# EAGLE library part NOIX3SN012KB (library ICs)
CMOS Image Sensor 4096H x 3072V 3.2µm x 3.2µm 163-CLGA (20.88x19.9)
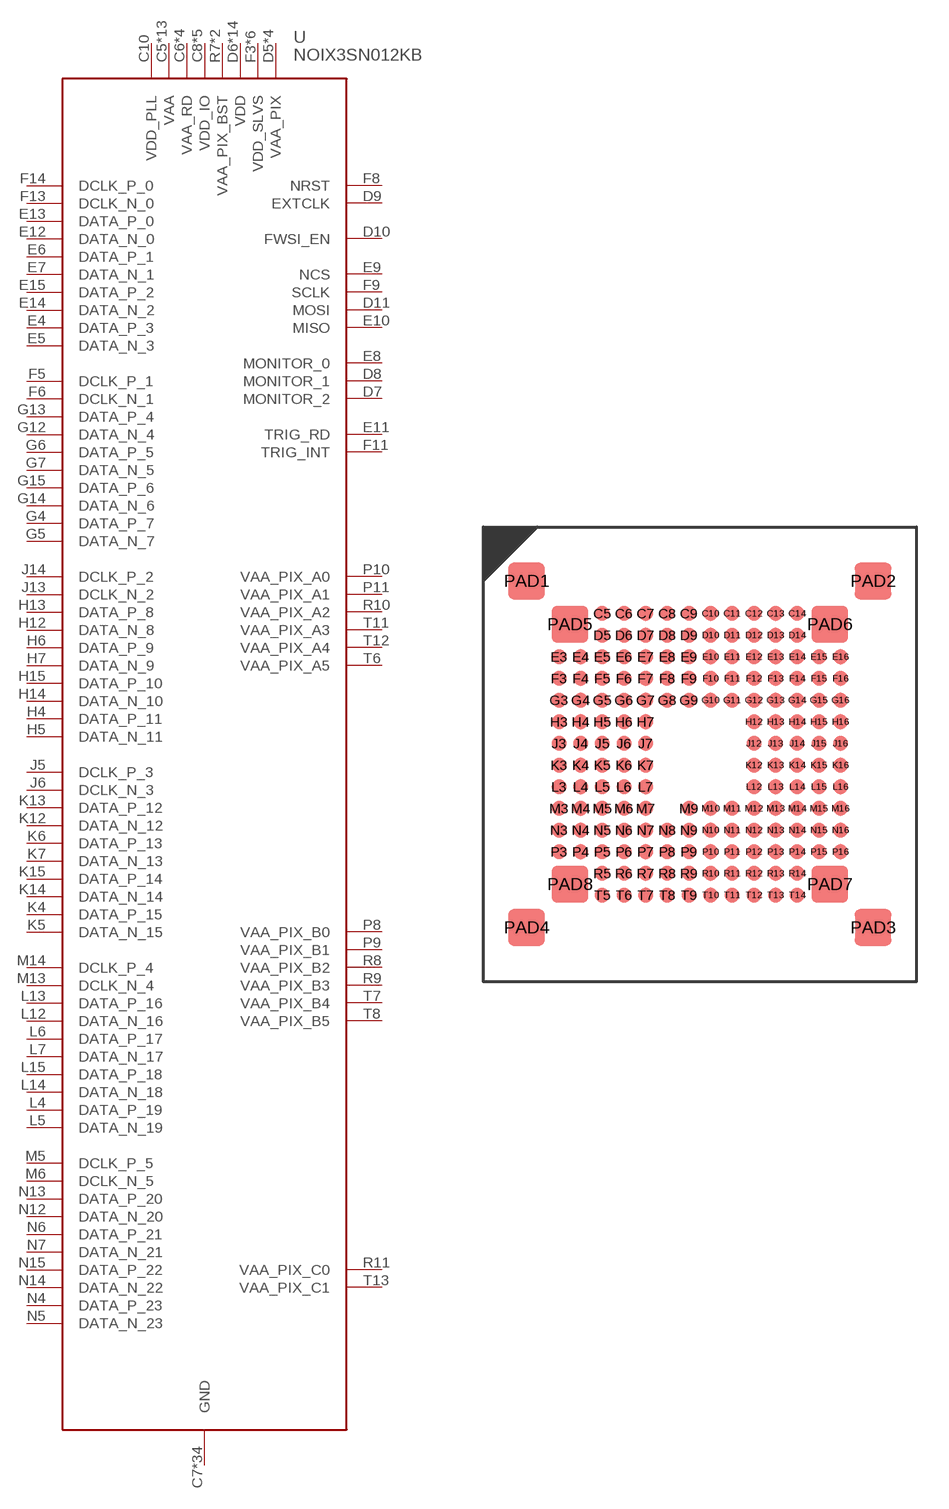
[diagram p324: symbol with the pads of CLGA163; footprint CLGA163]

Designator prefix U

## NOIX3SN012KB-LTI (DIGIKEY: 488-NOIX3SN012KB-LTI-ND; HEIGHT: 2.54; PRICE_PER: 344; VALUE: NOIX3SN012KB)  [CLGA163]
C5  VAA
C6  VAA_RD
C7  GND
C8  VDD_IO
C9  VDD_IO
C10  VDD_PLL
C11  VDD_IO
C12  GND
C13  VAA_RD
C14  VAA
D5  VAA_PIX
D6  VDD
D7  MONITOR_2
D8  MONITOR_1
D9  EXTCLK
D10  FWSI_EN
D11  MOSI
D12  GND
D13  VDD
D14  VAA_PIX
E3  VDD
E4  DATA_P_3
E5  DATA_N_3
E6  DATA_P_1
E7  DATA_N_1
E8  MONITOR_0
E9  NCS
E10  MISO
E11  TRIG_RD
E12  DATA_N_0
E13  DATA_P_0
E14  DATA_N_2
E15  DATA_P_2
E16  VDD
F3  VDD_SLVS
F4  GND
F5  DCLK_P_1
F6  DCLK_N_1
F7  VDD
F8  NRST
F9  SCLK
F10  GND
F11  TRIG_INT
F12  VDD
F13  DCLK_N_0
F14  DCLK_P_0
F15  GND
F16  VDD_SLVS
G3  GND
G4  DATA_P_7
G5  DATA_N_7
G6  DATA_P_5
G7  DATA_N_5
G8  GND
G9  GND
G10  GND
G11  GND
G12  DATA_N_4
G13  DATA_P_4
G14  DATA_N_6
G15  DATA_P_6
G16  GND
H3  VDD
H4  DATA_P_11
H5  DATA_N_11
H6  DATA_P_9
H7  DATA_N_9
H12  DATA_N_8
H13  DATA_P_8
H14  DATA_N_10
H15  DATA_P_10
H16  VDD
J3  VDD_SLVS
J4  GND
J5  DCLK_P_3
J6  DCLK_N_3
J7  VDD
J12  VDD
J13  DCLK_N_2
J14  DCLK_P_2
J15  GND
J16  VDD_SLVS
K3  GND
K4  DATA_P_15
K5  DATA_N_15
K6  DATA_P_13
K7  DATA_N_13
K12  DATA_N_12
K13  DATA_P_12
K14  DATA_N_14
K15  DATA_P_14
K16  GND
L3  VDD
L4  DATA_P_19
L5  DATA_N_19
L6  DATA_P_17
L7  DATA_N_17
L12  DATA_N_16
L13  DATA_P_16
L14  DATA_N_18
L15  DATA_P_18
L16  VDD
M3  VDD_SLVS
M4  GND
M5  DCLK_P_5
M6  DCLK_N_5
M7  VDD
M9  VAA
M10  VAA
M11  GND
M12  VDD
M13  DCLK_N_4
M14  DCLK_P_4
M15  GND
M16  VDD_SLVS
N3  VAA
N4  DATA_P_23
N5  DATA_N_23
N6  DATA_P_21
N7  DATA_N_21
N8  GND
N9  VAA
N10  VAA
N11  GND
N12  DATA_N_20
N13  DATA_P_20
N14  DATA_N_22
N15  DATA_P_22
N16  VAA
P3  VDD_IO
P5  VAA_PIX
P6  GND
P7  GND
P8  VAA_PIX_B0
P9  VAA_PIX_B1
P10  VAA_PIX_A0
P11  VAA_PIX_A1
P12  GND
P13  GND
P14  VAA_PIX
P16  VDD_IO
PAD1  GND
PAD2  GND
PAD3  GND
PAD4  GND
PAD5  GND
PAD6  GND
PAD7  GND
PAD8  GND
R5  VAA
R6  VAA
R7  VAA_PIX_BST
R8  VAA_PIX_B2
R9  VAA_PIX_B3
R10  VAA_PIX_A2
R11  VAA_PIX_C0
R12  VAA_PIX_BST
R13  VAA
R14  VAA
T5  VAA_RD
T6  VAA_PIX_A5
T7  VAA_PIX_B4
T8  VAA_PIX_B5
T9  VAA
T10  GND
T11  VAA_PIX_A3
T12  VAA_PIX_A4
T13  VAA_PIX_C1
T14  VAA_RD

## Footprint CLGA163 (pad centres in mm)
smd 0.7 x 0.7: C5 -4.5,6.5; C6 -3.5,6.5; C7 -2.5,6.5; C8 -1.5,6.5; C9 -0.5,6.5; C10 0.5,6.5; C11 1.5,6.5; C12 2.5,6.5; C13 3.5,6.5; C14 4.5,6.5; D5 -4.5,5.5; D6 -3.5,5.5; D7 -2.5,5.5; D8 -1.5,5.5; D9 -0.5,5.5; D10 0.5,5.5; D11 1.5,5.5; D12 2.5,5.5; D13 3.5,5.5; D14 4.5,5.5; E3 -6.5,4.5; E4 -5.5,4.5; E5 -4.5,4.5; E6 -3.5,4.5; E7 -2.5,4.5; E8 -1.5,4.5; E9 -0.5,4.5; E10 0.5,4.5; E11 1.5,4.5; E12 2.5,4.5; E13 3.5,4.5; E14 4.5,4.5; E15 5.5,4.5; E16 6.5,4.5; F3 -6.5,3.5; F4 -5.5,3.5; F5 -4.5,3.5; F6 -3.5,3.5; F7 -2.5,3.5; F8 -1.5,3.5; F9 -0.5,3.5; F10 0.5,3.5; F11 1.5,3.5; F12 2.5,3.5; F13 3.5,3.5; F14 4.5,3.5; F15 5.5,3.5; F16 6.5,3.5; G3 -6.5,2.5; G4 -5.5,2.5; G5 -4.5,2.5; G6 -3.5,2.5; G7 -2.5,2.5; G8 -1.5,2.5; G9 -0.5,2.5; G10 0.5,2.5; G11 1.5,2.5; G12 2.5,2.5; G13 3.5,2.5; G14 4.5,2.5; G15 5.5,2.5; G16 6.5,2.5; H3 -6.5,1.5; H4 -5.5,1.5; H5 -4.5,1.5; H6 -3.5,1.5; H7 -2.5,1.5; H12 2.5,1.5; H13 3.5,1.5; H14 4.5,1.5; H15 5.5,1.5; H16 6.5,1.5; J3 -6.5,0.5; J4 -5.5,0.5; J5 -4.5,0.5; J6 -3.5,0.5; J7 -2.5,0.5; J12 2.5,0.5; J13 3.5,0.5; J14 4.5,0.5; J15 5.5,0.5; J16 6.5,0.5; K3 -6.5,-0.5; K4 -5.5,-0.5; K5 -4.5,-0.5; K6 -3.5,-0.5; K7 -2.5,-0.5; K12 2.5,-0.5; K13 3.5,-0.5; K14 4.5,-0.5; K15 5.5,-0.5; K16 6.5,-0.5; L3 -6.5,-1.5; L4 -5.5,-1.5; L5 -4.5,-1.5; L6 -3.5,-1.5; L7 -2.5,-1.5; L12 2.5,-1.5; L13 3.5,-1.5; L14 4.5,-1.5; L15 5.5,-1.5; L16 6.5,-1.5; M3 -6.5,-2.5; M4 -5.5,-2.5; M5 -4.5,-2.5; M6 -3.5,-2.5; M7 -2.5,-2.5; M9 -0.5,-2.5; M10 0.5,-2.5; M11 1.5,-2.5; M12 2.5,-2.5; M13 3.5,-2.5; M14 4.5,-2.5; M15 5.5,-2.5; M16 6.5,-2.5; N3 -6.5,-3.5; N4 -5.5,-3.5; N5 -4.5,-3.5; N6 -3.5,-3.5; N7 -2.5,-3.5; N8 -1.5,-3.5; N9 -0.5,-3.5; N10 0.5,-3.5; N11 1.5,-3.5; N12 2.5,-3.5; N13 3.5,-3.5; N14 4.5,-3.5; N15 5.5,-3.5; N16 6.5,-3.5; P3 -6.5,-4.5; P4 -5.5,-4.5; P5 -4.5,-4.5; P6 -3.5,-4.5; P7 -2.5,-4.5; P8 -1.5,-4.5; P9 -0.5,-4.5; P10 0.5,-4.5; P11 1.5,-4.5; P12 2.5,-4.5; P13 3.5,-4.5; P14 4.5,-4.5; P15 5.5,-4.5; P16 6.5,-4.5; R5 -4.5,-5.5; R6 -3.5,-5.5; R7 -2.5,-5.5; R8 -1.5,-5.5; R9 -0.5,-5.5; R10 0.5,-5.5; R11 1.5,-5.5; R12 2.5,-5.5; R13 3.5,-5.5; R14 4.5,-5.5; T5 -4.5,-6.5; T6 -3.5,-6.5; T7 -2.5,-6.5; T8 -1.5,-6.5; T9 -0.5,-6.5; T10 0.5,-6.5; T11 1.5,-6.5; T12 2.5,-6.5; T13 3.5,-6.5; T14 4.5,-6.5
smd 1.7 x 1.7: PAD1 -8,8; PAD2 8,8; PAD3 8,-8; PAD4 -8,-8; PAD5 -6,6; PAD6 6,6; PAD7 6,-6; PAD8 -6,-6